# Altium footprint library TSSOP-16.PcbLib: 1 footprints
Each footprint in its own frame and in the unit in brackets; x right, y up, seen from the top. Pads: shape width x height; smd on the part's side, far side on the other; paste and mask are expansions set on the pad; w line width, h text height; cw(c..) or ccw(c..) is an arc to the next point about the centre after c.
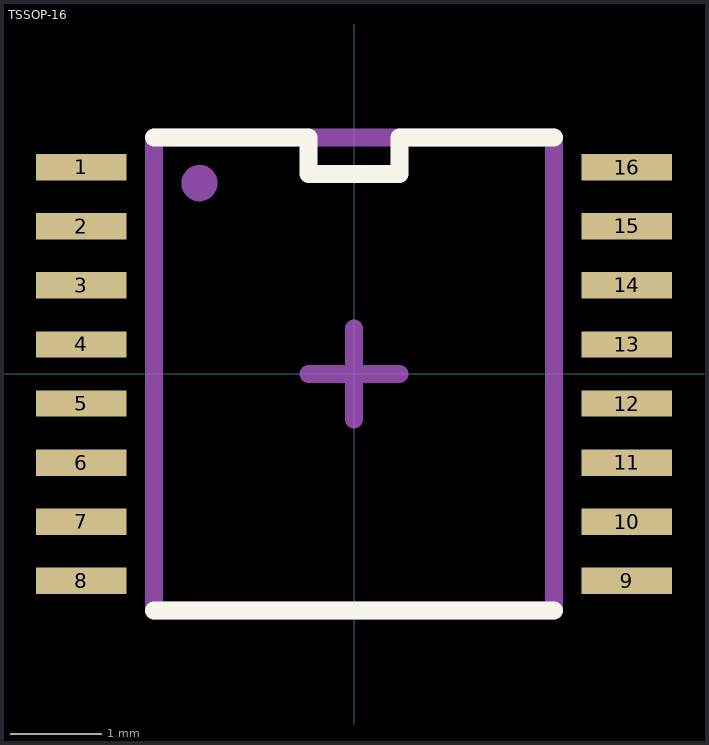
[diagram p0: the footprint, top view; thin cyan lines are the x and y axes]

## TSSOP-16 [mm] "TSSOP-16"
height 1.1
pads (16):
  rect 1x0.29 smd mask+0.05: 1(-3,2.275) 2(-3,1.625) 3(-3,0.975) 4(-3,0.325) 5(-3,-0.325) 6(-3,-0.975) 7(-3,-1.625) 8(-3,-2.275) 9(3,-2.275) 10(3,-1.625) 11(3,-0.975) 12(3,-0.325) 13(3,0.325) 14(3,0.975) 15(3,1.625) 16(3,2.275)
Top Overlay:
  lines w0.2: -2.2,-2.6 2.2,-2.6 ; -2.2,2.6 -0.5,2.6 -0.5,2.2 0.5,2.2 0.5,2.6 2.2,2.6
Top Assembly:
  circle w0.2: c-1.7,2.1 r0.1
  lines w0.2: -2.2,-2.6 -2.2,2.6 2.2,2.6 2.2,-2.6 -2.2,-2.6
Top Designator:
  text ".Designator" at -2,-1.718 h1.5
Top Component Center:
  lines w0.2: -0.5,0 0.5,0 ; 0,-0.5 0,0.5
3D body "TSSOP-16.step": height 1.2, standoff 0, extent -3.2,-2.5 3.2,2.5